# EAGLE library part 74LS241-N (library DynamixelLibrary)
The 74LS241-N communicator chip used primarily with Dynamixel AX-12 servo motors.
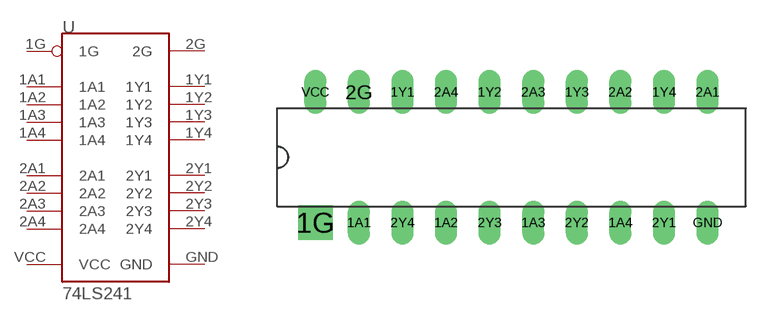
[diagram p0: symbol with the pads of 74LS241-N; footprint 74LS241-N]

Designator prefix -

## 74LS241-N  [74LS241-N]
1A1  1A1  in
1A2  1A2  in
1A3  1A3  in
1A4  1A4  in
1G  1G  in
1Y1  1Y1  out
1Y2  1Y2  out
1Y3  1Y3  out
1Y4  1Y4  out
2A1  2A1  in
2A2  2A2  in
2A3  2A3  in
2A4  2A4  in
2G  2G  in
2Y1  2Y1  out
2Y2  2Y2  out
2Y3  2Y3  out
2Y4  2Y4  out
GND  GND  pwr
VCC  VCC  pwr

## Footprint 74LS241-N (pad centres in mm)
drill 0.6 pad 1.27 long: 1A1 2.54,0; 1A2 7.62,0; 1A3 12.7,0; 1A4 17.78,0; 1Y1 5.08,7.62; 1Y2 10.16,7.62; 1Y3 15.24,7.62; 1Y4 20.32,7.62; 2A1 22.86,7.62; 2A2 17.78,7.62; 2A3 12.7,7.62; 2A4 7.62,7.62; 2G 2.54,7.62; 2Y1 20.32,0; 2Y2 15.24,0; 2Y3 10.16,0; 2Y4 5.08,0; GND 22.86,0; VCC 0,7.62
drill 0.6 pad 2 square: 1G 0,0